# EAGLE library part 620109131822 (library Wire-to-Board (rev18a))
WR-WTB 2.00mm SMT Male Horizontal Shrouded Header, 9 Pins=>Code : Con_WTB_2.00_PCB_SMT_620109131822 <http://katalog.we-online.de/media/thumbs2/eican/thb_Con_WTB_2.00_PCB_SMT_6201xx131822_pf2.jpg> Details see: http://katalog.we-online.de/en/em/WTB_2_00_SMT_MALE_HORIZONTAL_SHROUDED_HEADER_6201XX131822 Created 2014-06-05, Karrer Zheng 2014 (C) Würth Elektronik
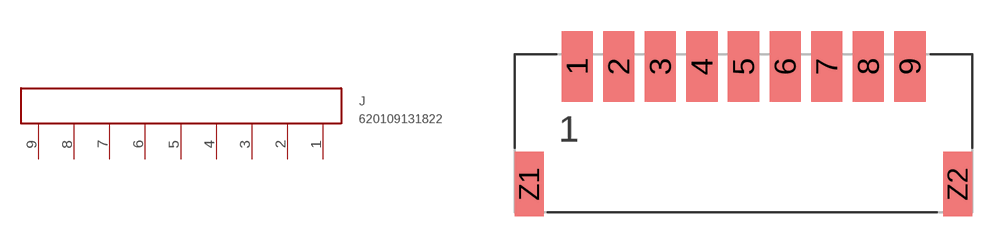
[diagram p43: symbol with the pads of 620109131822; footprint 620109131822]

Designator prefix J

## 620109131822  [620109131822]
1  9  pas
2  8  pas
3  7  pas
4  6  pas
5  5  pas
6  4  pas
7  3  pas
8  2  pas
9  1  pas

## Footprint 620109131822 (pad centres in mm)
WR-WTB 2.00mm SMT Male Horizontal Shrouded Header, 9 Pins
smd 1.5 x 3.4: 1 -8,0; 2 -6,0; 3 -4,0; 4 -2,0; 5 0,0; 6 2,0; 7 4,0; 8 6,0; 9 8,0
smd 1.4 x 3.1: Z1 -10.3,-5.65; Z2 10.3,-5.65